# EAGLE library part NC7WZ04P6X (library NC7WZ04P6X)
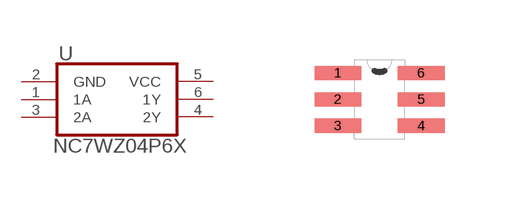
[diagram p0: symbol with the pads of SOT65P210X110-6N; footprint SOT65P210X110-6N]

Designator prefix -

## NC7WZ04P6X  [SOT65P210X110-6N]
1  1A  pas
2  GND  pas
3  2A  pas
4  2Y  pas
5  VCC  pas
6  1Y  pas

## Footprint SOT65P210X110-6N (pad centres in mm)
smd 1.168 x 0.356: 1 -1.041,0.66; 2 -1.041,0; 3 -1.041,-0.66; 4 1.041,-0.66; 5 1.041,0; 6 1.041,0.66